# Altium schematic symbol library 533091070.SchLib: 2 symbols
Pins are listed as number, name and electrical type; pins without a type are passive.

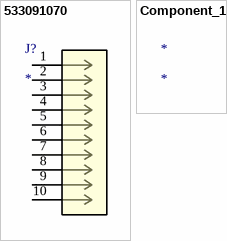
[diagram p0: symbols 533091070 to Component_1]

## 533091070
designator J?
No Description Available; Mfr_Name: Molex Connector Corporation; RefDes: RefDes; Type: Type
footprint CON_533091070
pins: 1, 2, 3, 4, 5, 6, 7, 8, 9, 10

## Component_1
designator *